# Altium schematic symbol library Schlib1.SchLib: 7 symbols
Pins are listed as number, name and electrical type; pins without a type are passive.

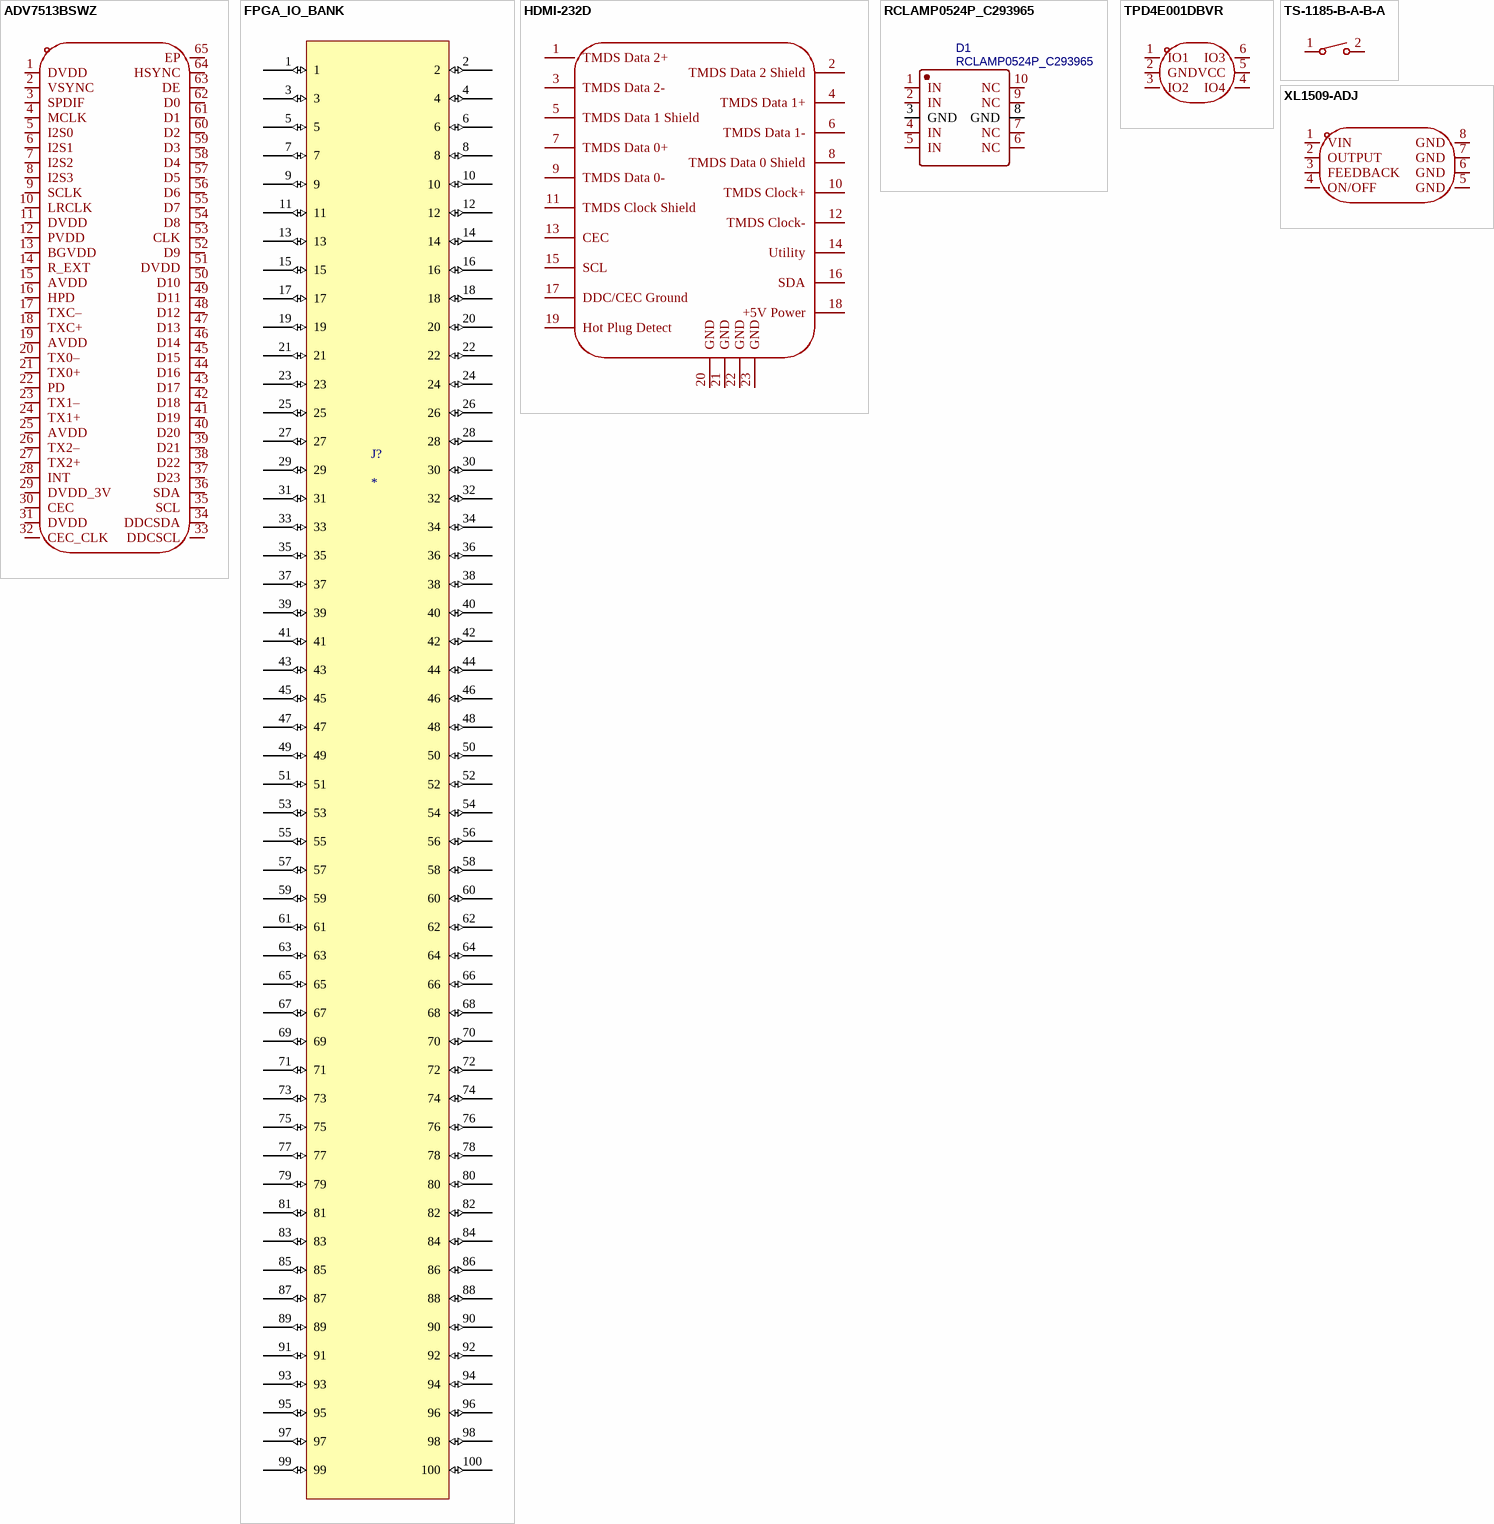
[diagram p0: symbols ADV7513BSWZ to XL1509-ADJ]

## ADV7513BSWZ
designator U?  (value not drawn)
Manufacturer: ADI(亚德诺); Add into BOM: yes; Control Interface: I2C; Voltage - Supply: 1.8V；3.3V; Symbol: ADV7513BSWZ; Device: ADV7513BSWZ; LCSC Part Name: ADV7513 HDMI 发送器; Supplier Part: C408901; Manufacturer Part: ADV7513BSWZ; Supplier Footprint: LQFP-64(10x10); JLCPCB Part Class: Extended Part; Datasheet: https://item.szlcsc.com/datasheet/ADV7513BSWZ/398368.html; Supplier: LCSC; Convert to PCB: yes; Type: -; Operating Temperature: -25℃~+85℃
footprint LQFP-64_L10.0-W10.0-P0.50-LS12.0-BL-EP5.3
3D model LQFP-64_L10.0-W10.0-H1.4-LS12.0-P0.50
pins: 1 DVDD, 2 VSYNC, 3 SPDIF, 4 MCLK, 5 I2S0, 6 I2S1, 7 I2S2, 8 I2S3, 9 SCLK, 10 LRCLK, 11 DVDD, 12 PVDD, 13 BGVDD, 14 R_EXT, 15 AVDD, 16 HPD, 17 TXC–, 18 TXC+, 19 AVDD, 20 TX0–, 21 TX0+, 22 PD, 23 TX1–, 24 TX1+, 25 AVDD, 26 TX2–, 27 TX2+, 28 INT, 29 DVDD_3V, 30 CEC, 31 DVDD, 32 CEC_CLK, 33 DDCSCL, 34 DDCSDA, 35 SCL, 36 SDA, 37 D23, 38 D22, 39 D21, 40 D20, 41 D19, 42 D18, 43 D17, 44 D16, 45 D15, 46 D14, 47 D13, 48 D12, 49 D11, 50 D10, 51 DVDD, 52 D9, 53 CLK, 54 D8, 55 D7, 56 D6, 57 D5, 58 D4, 59 D3, 60 D2, 61 D1, 62 D0, 63 DE, 64 HSYNC, 65 EP

## FPGA_IO_BANK
designator J?
100 pin 0.05" pitch IO bank
pins: 1 (io), 2 (io), 3 (io), 4 (io), 5 (io), 6 (io), 7 (io), 8 (io), 9 (io), 10 (io), 11 (io), 12 (io), 13 (io), 14 (io), 15 (io), 16 (io), 17 (io), 18 (io), 19 (io), 20 (io), 21 (io), 22 (io), 23 (io), 24 (io), 25 (io), 26 (io), 27 (io), 28 (io), 29 (io), 30 (io), 31 (io), 32 (io), 33 (io), 34 (io), 35 (io), 36 (io), 37 (io), 38 (io), 39 (io), 40 (io), 41 (io), 42 (io), 43 (io), 44 (io), 45 (io), 46 (io), 47 (io), 48 (io), 49 (io), 50 (io), 51 (io), 52 (io), 53 (io), 54 (io), 55 (io), 56 (io), 57 (io), 58 (io), 59 (io), 60 (io), 61 (io), 62 (io), 63 (io), 64 (io), 65 (io), 66 (io), 67 (io), 68 (io), 69 (io), 70 (io), 71 (io), 72 (io), 73 (io), 74 (io), 75 (io), 76 (io), 77 (io), 78 (io), 79 (io), 80 (io), 81 (io), 82 (io), 83 (io), 84 (io), 85 (io), 86 (io), 87 (io), 88 (io), 89 (io), 90 (io), 91 (io), 92 (io), 93 (io), 94 (io), 95 (io), 96 (io), 97 (io), 98 (io), 99 (io), 100 (io)

## HDMI-232D
designator U?  (value not drawn)
Manufacturer: HANBO(汉博); Add into BOM: yes; Symbol: HDMI-232D; Device: HDMI-232D; LCSC Part Name: HDMI TYPE A型短体壳长9.5; Supplier Part: C47326463; Manufacturer Part: HDMI-232D; Supplier Footprint: SMD; JLCPCB Part Class: Extended Part; Datasheet: https://item.szlcsc.com/datasheet/HDMI-232D/49535968.html; Supplier: LCSC; Convert to PCB: yes
footprint HDMI-232D
pins: 1 TMDS Data 2+, 2 TMDS Data 2 Shield, 3 TMDS Data 2-, 4 TMDS Data 1+, 5 TMDS Data 1 Shield, 6 TMDS Data 1-, 7 TMDS Data 0+, 8 TMDS Data 0 Shield, 9 TMDS Data 0-, 10 TMDS Clock+, 11 TMDS Clock Shield, 12 TMDS Clock-, 13 CEC, 14 Utility, 15 SCL, 16 SDA, 17 DDC/CEC Ground, 18 +5V Power, 19 Hot Plug Detect, 20 GND, 21 GND, 22 GND, 23 GND

## RCLAMP0524P_C293965
designator D1
Manufacturer: DOWO(东沃); Contributor: LCSC; Supplier: LCSC; Supplier Part: C293965; Manufacturer Part: RCLAMP0524P; JLCPCB Part Class: Extended Part; spicePre: D; spiceSymbolName: RCLAMP0524P_C293965
footprint DFN2510-10_L2.5-W1.0-P0.50-BL
pins: 1 IN, 2 IN, 3 GND, 4 IN, 5 IN, 6 NC, 7 NC, 8 GND, 9 NC, 10 NC

## TPD4E001DBVR
designator D?  (value not drawn)
Manufacturer: TI(德州仪器); Add into BOM: yes; Reverse Stand-Off Voltage (Vrwm): 5.5V; Peak Pulse Power Dissipation (Ppp)@10/1000us: 100W; Breakdown Voltage: 11V; Type: ESD; Symbol: TPD4E001DBVR; Device: TPD4E001DBVR; LCSC Part Name: TPD4E001DBVR; Supplier Part: C465736; Manufacturer Part: TPD4E001DBVR; Supplier Footprint: SOT-23-6; JLCPCB Part Class: Extended Part; Datasheet: https://www.ti.com/cn/lit/gpn/tpd4e001; Supplier: LCSC; Convert to PCB: yes; Maximum Clamping Voltage: -; Operating Temperature: -40℃~+85℃@(Ta)
footprint SOT-23-6_L2.9-W1.6-P0.95-LS2.8-BL
3D model SOT-23-6_L2.9-W1.6-H1.5-LS2.8-P0.95 (PCB3D Model)
pins: 1 IO1, 2 GND, 3 IO2, 4 IO4, 5 VCC, 6 IO3

## TS-1185-B-A-B-A
designator SW?  (value not drawn)
Tactile switch ROHS, SPST Surface Mount, -30C +85C 1.6N 12V 2mm 3mm 4mm 50mA Black no round button; Manufacturer: XKB Connectivity(中国星坤); Add into BOM: yes; Operating Force: 160gf; Strike Gundam: 不带; Mechanical Life: 10万次; Symbol: TS-1185-B-A-B-A; Device: TS-1185-B-A-B-A; LCSC Part Name: 4*3*2mm 立贴 轻触开关; Supplier Part: C561517; Manufacturer Part: TS-1185-B-A-B-A; Supplier Footprint: SMD; JLCPCB Part Class: Extended Part; Datasheet: https://atta.szlcsc.com/upload/public/pdf/source/20211011/C2F26DC0AE1820400F54DBF49644F5A1.pdf; Supplier: LCSC; Convert to PCB: yes; Circuit: SPST; Actuator Style: Round Button; Mounting Style: Brick nogging; Switch Length: 4mm; Switch Width: 3mm; Switch Height: 2mm; Contact Current: 50mA; Voltage Rating (DC): 12V; Insulation Resistance: -; Actuator/Cap Color: Black; With Lamp: No; Operating Temperature: -30℃~+85℃
footprint TS-1185-B-A-B-A
3D model SW-SMD_L4.0-W3.0-H2-LS5.0 (PCB3D Model)
pins: 1, 2

## XL1509-ADJ
designator U?  (value not drawn)
Manufacturer: UMW(友台半导体); Add into BOM: yes; Function: Buck; Voltage - Supply: 4.5V~40V; Output Voltage: 1.23V~37V; Output Current: 2A; Frequency - Switching: 150kHz; Synchronous Rectifier: No; Number of Outputs: 1; Quiescent Current: 2mA; Switch tube (built-in/external): Built-In; Output Type: Adjustable; Symbol: XL1509-ADJ; Device: XL1509-ADJ; LCSC Part Name: 150 KHz 固定频率 PWM 降压 DC/DC 转换器; Supplier Part: C2681227; Manufacturer Part: XL1509-ADJ; Supplier Footprint: SOIC-8; JLCPCB Part Class: Extended Part; Datasheet: https://item.szlcsc.com/datasheet/XL1509-ADJ/2773703.html; Supplier: LCSC; Convert to PCB: yes; Operating Temperature: -40℃~+125℃; Topology: Buck
footprint SOIC-8_L5.0-W4.0-P1.27-LS6.0-BL
3D model SOIC-8_L5.0-W4.0-P1.27-LS6.0-BL
pins: 1 VIN, 2 OUTPUT, 3 FEEDBACK, 4 ON/OFF, 5 GND, 6 GND, 7 GND, 8 GND